# Altium footprint library HX.PcbLib: 4 footprints
Each footprint in its own frame and in the unit in brackets; x right, y up, seen from the top. Pads: shape width x height; smd on the part's side, far side on the other; paste and mask are expansions set on the pad; w line width, h text height; cw(c..) or ccw(c..) is an arc to the next point about the centre after c.
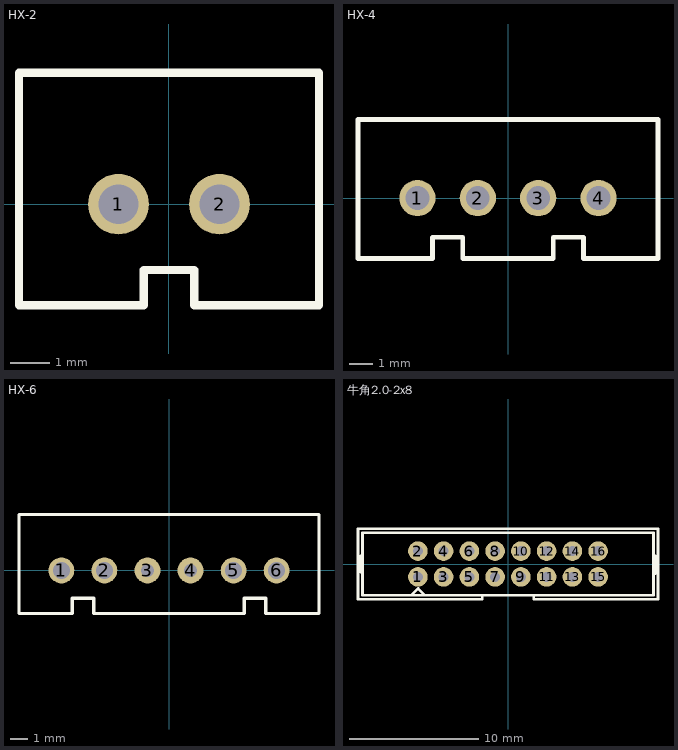
[diagram p0: the footprints below, top view; thin cyan lines are the x and y axes]

## HX-2 [mil]
pads (2):
  round 60 hole 39.37: 1(-50,0) 2(50,0)
Top Overlay:
  lines w8: -148.43,-100 -25,-100 -25,-65 25,-65 25,-100 148.43,-100 148.43,0 148.43,130 -148.43,130 -148.43,0 -148.43,-100

## HX-4 [mil]
pads (4):
  round 60 hole 39.37: 1(-150,0) 2(-50,0) 3(50,0) 4(150,0)
Top Overlay:
  lines w8: -248.43,-100 -125,-100 -125,-65 -75,-65 -75,-100 75,-100 75,-65 125,-65 125,-100 248.43,-100 248.43,0 248.43,130 -248.43,130 -248.43,0 -248.43,-100

## HX-6 [mil]
pads (6):
  round 60 hole 39.37: 1(-250,0) 2(-150,0) 5(150,0) 6(250,0)
  round 60 hole 30: 3(-50,0) 4(50,0)
Top Overlay:
  lines w8: -348.43,-100 -348.43,0 -348.43,130 348.43,130 348.43,0 348.43,-100 225,-100 225,-65 175,-65 175,-100 -175,-100 -175,-65 -225,-65 -225,-100 -348.43,-100

## 牛角2.0-2x8 [mil]
height 55.12
pads (16):
  round 60 hole 30: 1(-275.59,-39.37) 2(-275.59,39.37) 3(-196.85,-39.37) 4(-196.85,39.37) 5(-118.11,-39.37) 6(-118.11,39.37) 7(-39.37,-39.37) 8(-39.37,39.37) 9(39.37,-39.37) 10(39.37,39.37) 11(118.11,-39.37) 12(118.11,39.37) 13(196.85,-39.37) 14(196.85,39.37) 15(275.59,-39.37) 16(275.59,39.37)
Top Overlay:
  lines w8: -445,-25 -450,-25 -450,25 -445,25 ; -295,-95 -275,-75 -255,-95 ; 445,25 450,25 450,-30 ; -78.74,-95 78.74,-95 ; -78.74,-95 -78.74,-108.27 -458.66,-108.27 -458.66,108.27 458.66,108.27 458.66,-108.27 78.74,-108.27 78.74,-95 ; -78.74,-95 -445,-95 -445,95 445,95 445,-95 78.74,-95